# EAGLE library part MSP430FR5969 (library tmp20)
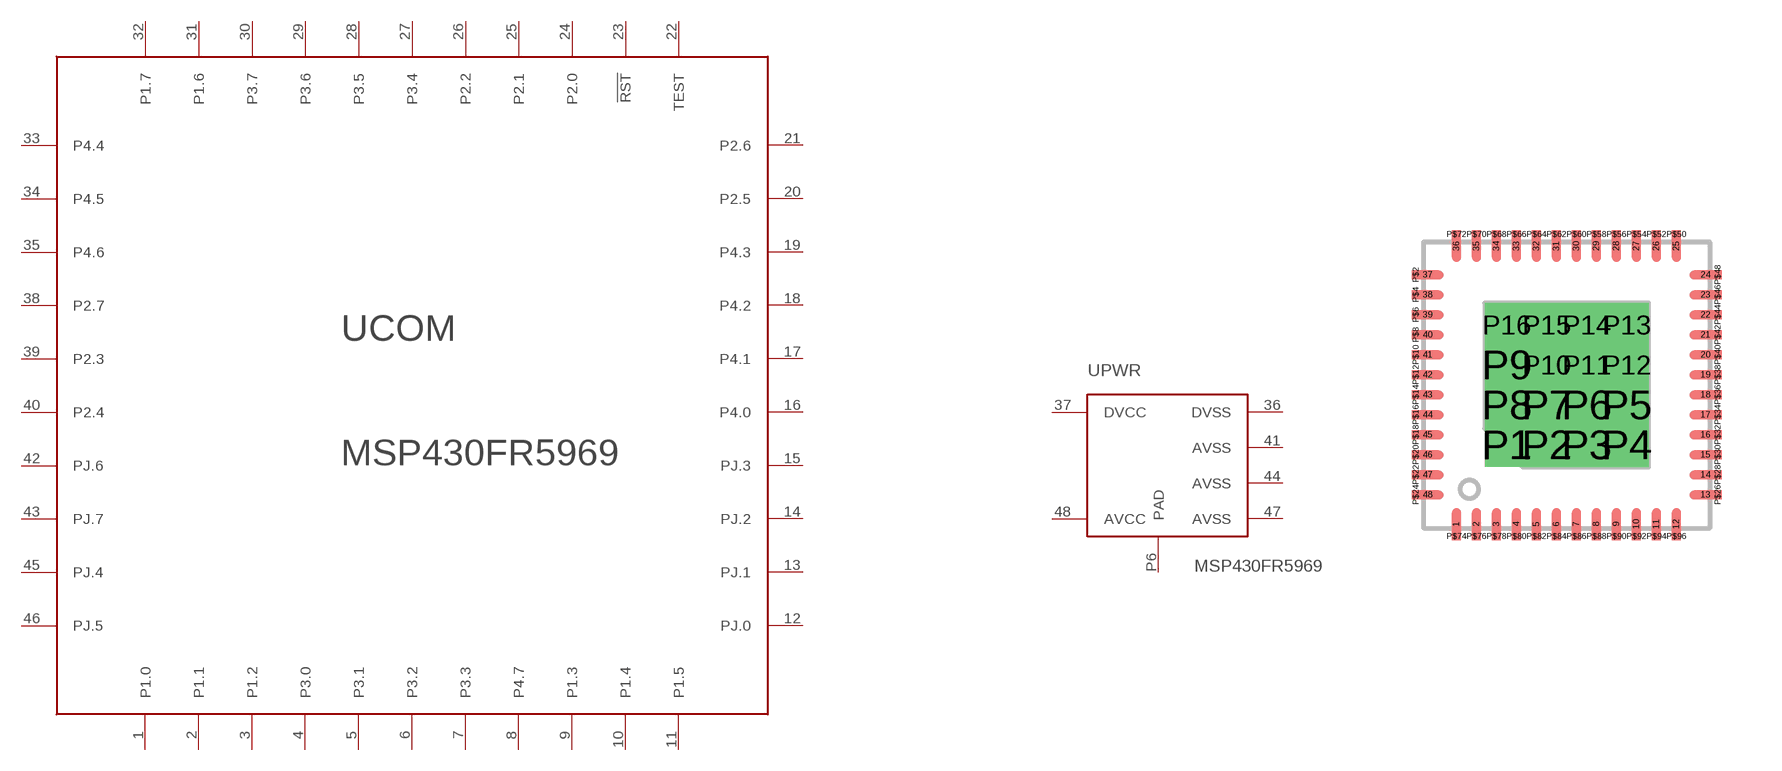
[diagram p0: symbol with the pads of QFN-48(7X7); footprint QFN-48(7X7)]

Designator prefix -; gates COM=MSP430FR5969 PWR=MSPFR5969_PWR

## MSP430FR5969  [QFN-48(7X7)]
1  COM:P1.0
2  COM:P1.1
3  COM:P1.2
4  COM:P3.0
5  COM:P3.1
6  COM:P3.2
7  COM:P3.3
8  COM:P4.7
9  COM:P1.3
10  COM:P1.4
11  COM:P1.5
12  COM:PJ.0
13  COM:PJ.1
14  COM:PJ.2
15  COM:PJ.3
16  COM:P4.0
17  COM:P4.1
18  COM:P4.2
19  COM:P4.3
20  COM:P2.5
21  COM:P2.6
22  COM:TEST
23  COM:!RST
24  COM:P2.0
25  COM:P2.1
26  COM:P2.2
27  COM:P3.4
28  COM:P3.5
29  COM:P3.6
30  COM:P3.7
31  COM:P1.6
32  COM:P1.7
33  COM:P4.4
34  COM:P4.5
35  COM:P4.6
36  PWR:DVSS  pwr
37  PWR:DVCC  pwr
38  COM:P2.7
39  COM:P2.3
40  COM:P2.4
41  PWR:AVSS  pwr
42  COM:PJ.6
43  COM:PJ.7
44  PWR:AVSS  pwr
45  COM:PJ.4
46  COM:PJ.5
47  PWR:AVSS  pwr
48  PWR:AVCC  pwr
P6  PWR:PAD  pwr

## Footprint QFN-48(7X7) (pad centres in mm)
smd 0.23 x 0.8: 1 -2.76,-3.48; 2 -2.26,-3.48; 3 -1.76,-3.48; 4 -1.26,-3.48; 5 -0.76,-3.48; 6 -0.26,-3.48; 7 0.24,-3.48; 8 0.74,-3.48; 9 1.24,-3.48; 10 1.74,-3.48; 11 2.24,-3.48; 12 2.74,-3.48; 25 2.74,3.47; 26 2.24,3.47; 27 1.74,3.47; 28 1.24,3.47; 29 0.74,3.47; 30 0.24,3.47; 31 -0.26,3.47; 32 -0.76,3.47; 33 -1.26,3.47; 34 -1.76,3.47; 35 -2.26,3.47; 36 -2.76,3.47
smd 0.8 x 0.23: 13 3.47,-2.75; 14 3.47,-2.25; 15 3.47,-1.75; 16 3.47,-1.25; 17 3.47,-0.75; 18 3.47,-0.25; 19 3.47,0.25; 20 3.47,0.75; 21 3.47,1.25; 22 3.47,1.75; 23 3.47,2.25; 24 3.47,2.75; 37 -3.48,2.75; 38 -3.48,2.25; 39 -3.48,1.75; 40 -3.48,1.25; 41 -3.48,0.75; 42 -3.48,0.25; 43 -3.48,-0.25; 44 -3.48,-0.75; 45 -3.48,-1.25; 46 -3.48,-1.75; 47 -3.48,-2.25; 48 -3.48,-2.75
drill 0.3 pad 1.1 square: P1 -1.5,-1.5; P2 -0.5,-1.5; P3 0.5,-1.5; P4 1.5,-1.5; P5 1.5,-0.5; P6 0.5,-0.5; P7 -0.5,-0.5; P8 -1.5,-0.5; P9 -1.5,0.5; P10 -0.5,0.5; P11 0.5,0.5; P12 1.5,0.5; P13 1.5,1.5; P14 0.5,1.5; P15 -0.5,1.5; P16 -1.5,1.5
smd 0.2 x 0.23: P$2 -3.78,2.75; P$4 -3.78,2.25; P$6 -3.78,1.75; P$8 -3.78,1.25; P$10 -3.78,0.75; P$12 -3.78,0.25; P$14 -3.78,-0.25; P$16 -3.78,-0.75; P$18 -3.78,-1.25; P$20 -3.78,-1.75; P$22 -3.78,-2.25; P$24 -3.78,-2.75; P$26 3.77,-2.75; P$28 3.77,-2.25; P$30 3.77,-1.75; P$32 3.77,-1.25; P$34 3.77,-0.75; P$36 3.77,-0.25; P$38 3.77,0.25; P$40 3.77,0.75; P$42 3.77,1.25; P$44 3.77,1.75; P$46 3.77,2.25; P$48 3.77,2.75
smd 0.23 x 0.2: P$50 2.74,3.77; P$52 2.24,3.77; P$54 1.74,3.77; P$56 1.24,3.77; P$58 0.74,3.77; P$60 0.24,3.77; P$62 -0.26,3.77; P$64 -0.76,3.77; P$66 -1.26,3.77; P$68 -1.76,3.77; P$70 -2.26,3.77; P$72 -2.76,3.77; P$74 -2.76,-3.78; P$76 -2.26,-3.78; P$78 -1.76,-3.78; P$80 -1.26,-3.78; P$82 -0.76,-3.78; P$84 -0.26,-3.78; P$86 0.24,-3.78; P$88 0.74,-3.78; P$90 1.24,-3.78; P$92 1.74,-3.78; P$94 2.24,-3.78; P$96 2.74,-3.78